# Altium footprint library Texas Instruments Footprints.PcbLib: 429 footprints (part 17 of 32)
Each footprint in its own frame and in the unit in brackets; x right, y up, seen from the top. Pads: shape width x height; smd on the part's side, far side on the other; paste and mask are expansions set on the pad; w line width, h text height; cw(c..) or ccw(c..) is an arc to the next point about the centre after c.
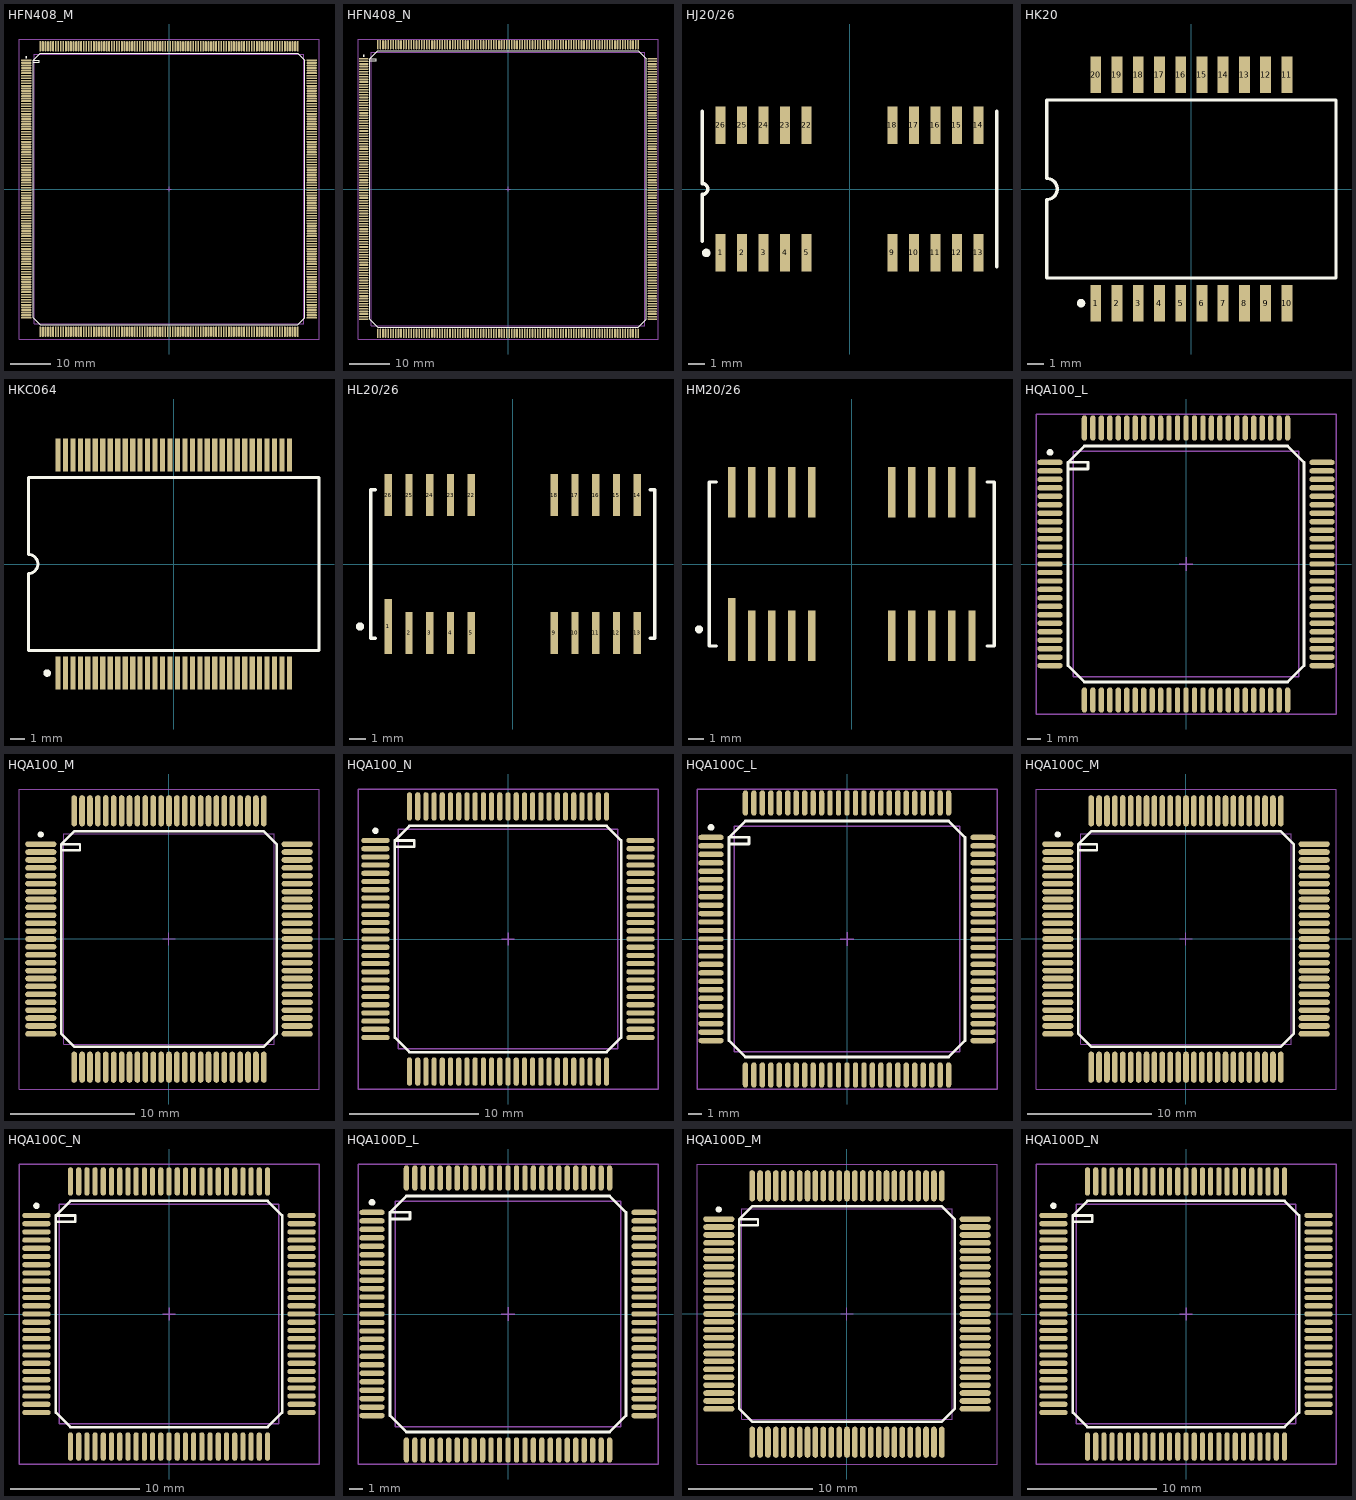
[diagram p16: the footprints below, top view; thin cyan lines are the x and y axes]

## HFN408_M [mm] "408-Pin Ceramic Quad Flat Pack 0.635 mm Pitch, IPC Low Density"
height 2.5
pads (408):
  oval 2.6x0.45 smd: 1(-35.6,32.067) 2(-35.6,31.432) 3(-35.6,30.797) 4(-35.6,30.162) 5(-35.6,29.527) 6(-35.6,28.892) 7(-35.6,28.258) 8(-35.6,27.622) 9(-35.6,26.987) 10(-35.6,26.352) 11(-35.6,25.717) 12(-35.6,25.082) 13(-35.6,24.447) 14(-35.6,23.812) 15(-35.6,23.177) 16(-35.6,22.543) 17(-35.6,21.907) 18(-35.6,21.273) 19(-35.6,20.637) 20(-35.6,20.002) 21(-35.6,19.367) 22(-35.6,18.732) 23(-35.6,18.098) 24(-35.6,17.462) 25(-35.6,16.828) 26(-35.6,16.192) 27(-35.6,15.557) 28(-35.6,14.922) 29(-35.6,14.287) 30(-35.6,13.652) 31(-35.6,13.018) 32(-35.6,12.383) 33(-35.6,11.747) 34(-35.6,11.112) 35(-35.6,10.477) 36(-35.6,9.842) 37(-35.6,9.207) 38(-35.6,8.572) 39(-35.6,7.938) 40(-35.6,7.302) 41(-35.6,6.667) 42(-35.6,6.032) 43(-35.6,5.397) 44(-35.6,4.763) 45(-35.6,4.127) 46(-35.6,3.492) 47(-35.6,2.857) 48(-35.6,2.222) 49(-35.6,1.587) 50(-35.6,0.953) 51(-35.6,0.318) 52(-35.6,-0.318) 53(-35.6,-0.953) 54(-35.6,-1.587) 55(-35.6,-2.222) 56(-35.6,-2.857) 57(-35.6,-3.492) 58(-35.6,-4.127) 59(-35.6,-4.763) 60(-35.6,-5.397) 61(-35.6,-6.032) 62(-35.6,-6.667) 63(-35.6,-7.302) 64(-35.6,-7.938) 65(-35.6,-8.572) 66(-35.6,-9.207) 67(-35.6,-9.842) 68(-35.6,-10.477) 69(-35.6,-11.112) 70(-35.6,-11.747) 71(-35.6,-12.383) 72(-35.6,-13.018) 73(-35.6,-13.652) 74(-35.6,-14.287) 75(-35.6,-14.922) 76(-35.6,-15.557) 77(-35.6,-16.192) 78(-35.6,-16.828) 79(-35.6,-17.462) 80(-35.6,-18.098) 81(-35.6,-18.732) 82(-35.6,-19.367) 83(-35.6,-20.002) 84(-35.6,-20.637) 85(-35.6,-21.273) 86(-35.6,-21.907) 87(-35.6,-22.543) 88(-35.6,-23.177) 89(-35.6,-23.812) 90(-35.6,-24.447) 91(-35.6,-25.082) 92(-35.6,-25.717) 93(-35.6,-26.352) 94(-35.6,-26.987) 95(-35.6,-27.622) 96(-35.6,-28.258) 97(-35.6,-28.892) 98(-35.6,-29.527) 99(-35.6,-30.162) 100(-35.6,-30.797) 101(-35.6,-31.432) 102(-35.6,-32.067) 205(35.6,-32.067) 206(35.6,-31.432) 207(35.6,-30.797) 208(35.6,-30.162) 209(35.6,-29.527) 210(35.6,-28.892) 211(35.6,-28.258) 212(35.6,-27.622) 213(35.6,-26.987) 214(35.6,-26.352) 215(35.6,-25.717) 216(35.6,-25.082) 217(35.6,-24.447) 218(35.6,-23.812) 219(35.6,-23.177) 220(35.6,-22.543) 221(35.6,-21.907) 222(35.6,-21.273) 223(35.6,-20.637) 224(35.6,-20.002) 225(35.6,-19.367) 226(35.6,-18.732) 227(35.6,-18.098) 228(35.6,-17.462) 229(35.6,-16.828) 230(35.6,-16.192) 231(35.6,-15.557) 232(35.6,-14.922) 233(35.6,-14.287) 234(35.6,-13.652) 235(35.6,-13.018) 236(35.6,-12.383) 237(35.6,-11.747) 238(35.6,-11.112) 239(35.6,-10.477) 240(35.6,-9.842) 241(35.6,-9.207) 242(35.6,-8.572) 243(35.6,-7.938) 244(35.6,-7.302) 245(35.6,-6.667) 246(35.6,-6.032) 247(35.6,-5.397) 248(35.6,-4.763) 249(35.6,-4.127) 250(35.6,-3.492) 251(35.6,-2.857) 252(35.6,-2.222) 253(35.6,-1.587) 254(35.6,-0.953) 255(35.6,-0.318) 256(35.6,0.318) 257(35.6,0.953) 258(35.6,1.587) 259(35.6,2.222) 260(35.6,2.857) 261(35.6,3.492) 262(35.6,4.127) 263(35.6,4.763) 264(35.6,5.397) 265(35.6,6.032) 266(35.6,6.667) 267(35.6,7.302) 268(35.6,7.938) 269(35.6,8.572) 270(35.6,9.207) 271(35.6,9.842) 272(35.6,10.477) 273(35.6,11.112) 274(35.6,11.747) 275(35.6,12.383) 276(35.6,13.018) 277(35.6,13.652) 278(35.6,14.287) 279(35.6,14.922) 280(35.6,15.557) 281(35.6,16.192) 282(35.6,16.828) 283(35.6,17.462) 284(35.6,18.098) 285(35.6,18.732) 286(35.6,19.367) 287(35.6,20.002) 288(35.6,20.637) 289(35.6,21.273) 290(35.6,21.907) 291(35.6,22.543) 292(35.6,23.177) 293(35.6,23.812) 294(35.6,24.447) 295(35.6,25.082) 296(35.6,25.717) 297(35.6,26.352) 298(35.6,26.987) 299(35.6,27.622) 300(35.6,28.258) 301(35.6,28.892) 302(35.6,29.527) 303(35.6,30.162) 304(35.6,30.797) 305(35.6,31.432) 306(35.6,32.067)
  oval 0.45x2.6 smd: 103(-32.067,-35.6) 104(-31.432,-35.6) 105(-30.797,-35.6) 106(-30.162,-35.6) 107(-29.527,-35.6) 108(-28.892,-35.6) 109(-28.258,-35.6) 110(-27.622,-35.6) 111(-26.987,-35.6) 112(-26.352,-35.6) 113(-25.717,-35.6) 114(-25.082,-35.6) 115(-24.447,-35.6) 116(-23.812,-35.6) 117(-23.177,-35.6) 118(-22.543,-35.6) 119(-21.907,-35.6) 120(-21.273,-35.6) 121(-20.637,-35.6) 122(-20.002,-35.6) 123(-19.367,-35.6) 124(-18.732,-35.6) 125(-18.098,-35.6) 126(-17.462,-35.6) 127(-16.828,-35.6) 128(-16.192,-35.6) 129(-15.557,-35.6) 130(-14.922,-35.6) 131(-14.287,-35.6) 132(-13.652,-35.6) 133(-13.018,-35.6) 134(-12.383,-35.6) 135(-11.747,-35.6) 136(-11.112,-35.6) 137(-10.477,-35.6) 138(-9.842,-35.6) 139(-9.207,-35.6) 140(-8.572,-35.6) 141(-7.938,-35.6) 142(-7.302,-35.6) 143(-6.667,-35.6) 144(-6.032,-35.6) 145(-5.397,-35.6) 146(-4.763,-35.6) 147(-4.127,-35.6) 148(-3.492,-35.6) 149(-2.857,-35.6) 150(-2.222,-35.6) 151(-1.587,-35.6) 152(-0.953,-35.6) 153(-0.318,-35.6) 154(0.318,-35.6) 155(0.953,-35.6) 156(1.587,-35.6) 157(2.222,-35.6) 158(2.857,-35.6) 159(3.492,-35.6) 160(4.127,-35.6) 161(4.763,-35.6) 162(5.397,-35.6) 163(6.032,-35.6) 164(6.667,-35.6) 165(7.302,-35.6) 166(7.938,-35.6) 167(8.572,-35.6) 168(9.207,-35.6) 169(9.842,-35.6) 170(10.477,-35.6) 171(11.112,-35.6) 172(11.747,-35.6) 173(12.383,-35.6) 174(13.018,-35.6) 175(13.652,-35.6) 176(14.287,-35.6) 177(14.922,-35.6) 178(15.557,-35.6) 179(16.192,-35.6) 180(16.828,-35.6) 181(17.462,-35.6) 182(18.098,-35.6) 183(18.732,-35.6) 184(19.367,-35.6) 185(20.002,-35.6) 186(20.637,-35.6) 187(21.273,-35.6) 188(21.907,-35.6) 189(22.543,-35.6) 190(23.177,-35.6) 191(23.812,-35.6) 192(24.447,-35.6) 193(25.082,-35.6) 194(25.717,-35.6) 195(26.352,-35.6) 196(26.987,-35.6) 197(27.622,-35.6) 198(28.258,-35.6) 199(28.892,-35.6) 200(29.527,-35.6) 201(30.162,-35.6) 202(30.797,-35.6) 203(31.432,-35.6) 204(32.067,-35.6) 307(32.067,35.6) 308(31.432,35.6) 309(30.797,35.6) 310(30.162,35.6) 311(29.527,35.6) 312(28.892,35.6) 313(28.258,35.6) 314(27.622,35.6) 315(26.987,35.6) 316(26.352,35.6) 317(25.717,35.6) 318(25.082,35.6) 319(24.447,35.6) 320(23.812,35.6) 321(23.177,35.6) 322(22.543,35.6) 323(21.907,35.6) 324(21.273,35.6) 325(20.637,35.6) 326(20.002,35.6) 327(19.367,35.6) 328(18.732,35.6) 329(18.098,35.6) 330(17.462,35.6) 331(16.828,35.6) 332(16.192,35.6) 333(15.557,35.6) 334(14.922,35.6) 335(14.287,35.6) 336(13.652,35.6) 337(13.018,35.6) 338(12.383,35.6) 339(11.747,35.6) 340(11.112,35.6) 341(10.477,35.6) 342(9.842,35.6) 343(9.207,35.6) 344(8.572,35.6) 345(7.938,35.6) 346(7.302,35.6) 347(6.667,35.6) 348(6.032,35.6) 349(5.397,35.6) 350(4.763,35.6) 351(4.127,35.6) 352(3.492,35.6) 353(2.857,35.6) 354(2.222,35.6) 355(1.587,35.6) 356(0.953,35.6) 357(0.318,35.6) 358(-0.318,35.6) 359(-0.953,35.6) 360(-1.587,35.6) 361(-2.222,35.6) 362(-2.857,35.6) 363(-3.492,35.6) 364(-4.127,35.6) 365(-4.763,35.6) 366(-5.397,35.6) 367(-6.032,35.6) 368(-6.667,35.6) 369(-7.302,35.6) 370(-7.938,35.6) 371(-8.572,35.6) 372(-9.207,35.6) 373(-9.842,35.6) 374(-10.477,35.6) 375(-11.112,35.6) 376(-11.747,35.6) 377(-12.383,35.6) 378(-13.018,35.6) 379(-13.652,35.6) 380(-14.287,35.6) 381(-14.922,35.6) 382(-15.557,35.6) 383(-16.192,35.6) 384(-16.828,35.6) 385(-17.462,35.6) 386(-18.098,35.6) 387(-18.732,35.6) 388(-19.367,35.6) 389(-20.002,35.6) 390(-20.637,35.6) 391(-21.273,35.6) 392(-21.907,35.6) 393(-22.543,35.6) 394(-23.177,35.6) 395(-23.812,35.6) 396(-24.447,35.6) 397(-25.082,35.6) 398(-25.717,35.6) 399(-26.352,35.6) 400(-26.987,35.6) 401(-27.622,35.6) 402(-28.258,35.6) 403(-28.892,35.6) 404(-29.527,35.6) 405(-30.162,35.6) 406(-30.797,35.6) 407(-31.432,35.6) 408(-32.067,35.6)
Top Overlay:
  circle w0.25: c-35.6,32.842 r0.125
  lines w0.2: -33.9,31.57 -32.4,31.57 -32.4,32.07 -33.9,32.07 ; -33.9,32.07 -32.07,33.9 32.07,33.9 33.9,32.07 33.9,-32.07 32.07,-33.9 -32.07,-33.9 -33.9,-32.07 -33.9,32.07
Mechanical 13:
  lines w0.1: -33.655,-33.655 33.655,-33.655 33.655,33.655 -33.655,33.655 -33.655,-33.655
Mechanical 15:
  lines w0.1: -0.5,0 0.5,0 ; 0,-0.5 0,0.5 ; -37.4,-37.4 37.4,-37.4 37.4,37.4 -37.4,37.4 -37.4,-37.4
3D body: height 2.5, standoff 0, extent -33.655,-33.655 33.655,33.655

## HFN408_N [mm] "408-Pin Ceramic Quad Flat Pack 0.635 mm Pitch, IPC Medium Density"
height 2.5
pads (408):
  oval 2.3x0.4 smd: 1(-35.55,32.067) 2(-35.55,31.432) 3(-35.55,30.797) 4(-35.55,30.162) 5(-35.55,29.527) 6(-35.55,28.892) 7(-35.55,28.258) 8(-35.55,27.622) 9(-35.55,26.987) 10(-35.55,26.352) 11(-35.55,25.717) 12(-35.55,25.082) 13(-35.55,24.447) 14(-35.55,23.812) 15(-35.55,23.177) 16(-35.55,22.543) 17(-35.55,21.907) 18(-35.55,21.273) 19(-35.55,20.637) 20(-35.55,20.002) 21(-35.55,19.367) 22(-35.55,18.732) 23(-35.55,18.098) 24(-35.55,17.462) 25(-35.55,16.828) 26(-35.55,16.192) 27(-35.55,15.557) 28(-35.55,14.922) 29(-35.55,14.287) 30(-35.55,13.652) 31(-35.55,13.018) 32(-35.55,12.383) 33(-35.55,11.747) 34(-35.55,11.112) 35(-35.55,10.477) 36(-35.55,9.842) 37(-35.55,9.207) 38(-35.55,8.572) 39(-35.55,7.938) 40(-35.55,7.302) 41(-35.55,6.667) 42(-35.55,6.032) 43(-35.55,5.397) 44(-35.55,4.763) 45(-35.55,4.127) 46(-35.55,3.492) 47(-35.55,2.857) 48(-35.55,2.222) 49(-35.55,1.587) 50(-35.55,0.953) 51(-35.55,0.318) 52(-35.55,-0.318) 53(-35.55,-0.953) 54(-35.55,-1.587) 55(-35.55,-2.222) 56(-35.55,-2.857) 57(-35.55,-3.492) 58(-35.55,-4.127) 59(-35.55,-4.763) 60(-35.55,-5.397) 61(-35.55,-6.032) 62(-35.55,-6.667) 63(-35.55,-7.302) 64(-35.55,-7.938) 65(-35.55,-8.572) 66(-35.55,-9.207) 67(-35.55,-9.842) 68(-35.55,-10.477) 69(-35.55,-11.112) 70(-35.55,-11.747) 71(-35.55,-12.383) 72(-35.55,-13.018) 73(-35.55,-13.652) 74(-35.55,-14.287) 75(-35.55,-14.922) 76(-35.55,-15.557) 77(-35.55,-16.192) 78(-35.55,-16.828) 79(-35.55,-17.462) 80(-35.55,-18.098) 81(-35.55,-18.732) 82(-35.55,-19.367) 83(-35.55,-20.002) 84(-35.55,-20.637) 85(-35.55,-21.273) 86(-35.55,-21.907) 87(-35.55,-22.543) 88(-35.55,-23.177) 89(-35.55,-23.812) 90(-35.55,-24.447) 91(-35.55,-25.082) 92(-35.55,-25.717) 93(-35.55,-26.352) 94(-35.55,-26.987) 95(-35.55,-27.622) 96(-35.55,-28.258) 97(-35.55,-28.892) 98(-35.55,-29.527) 99(-35.55,-30.162) 100(-35.55,-30.797) 101(-35.55,-31.432) 102(-35.55,-32.067) 205(35.55,-32.067) 206(35.55,-31.432) 207(35.55,-30.797) 208(35.55,-30.162) 209(35.55,-29.527) 210(35.55,-28.892) 211(35.55,-28.258) 212(35.55,-27.622) 213(35.55,-26.987) 214(35.55,-26.352) 215(35.55,-25.717) 216(35.55,-25.082) 217(35.55,-24.447) 218(35.55,-23.812) 219(35.55,-23.177) 220(35.55,-22.543) 221(35.55,-21.907) 222(35.55,-21.273) 223(35.55,-20.637) 224(35.55,-20.002) 225(35.55,-19.367) 226(35.55,-18.732) 227(35.55,-18.098) 228(35.55,-17.462) 229(35.55,-16.828) 230(35.55,-16.192) 231(35.55,-15.557) 232(35.55,-14.922) 233(35.55,-14.287) 234(35.55,-13.652) 235(35.55,-13.018) 236(35.55,-12.383) 237(35.55,-11.747) 238(35.55,-11.112) 239(35.55,-10.477) 240(35.55,-9.842) 241(35.55,-9.207) 242(35.55,-8.572) 243(35.55,-7.938) 244(35.55,-7.302) 245(35.55,-6.667) 246(35.55,-6.032) 247(35.55,-5.397) 248(35.55,-4.763) 249(35.55,-4.127) 250(35.55,-3.492) 251(35.55,-2.857) 252(35.55,-2.222) 253(35.55,-1.587) 254(35.55,-0.953) 255(35.55,-0.318) 256(35.55,0.318) 257(35.55,0.953) 258(35.55,1.587) 259(35.55,2.222) 260(35.55,2.857) 261(35.55,3.492) 262(35.55,4.127) 263(35.55,4.763) 264(35.55,5.397) 265(35.55,6.032) 266(35.55,6.667) 267(35.55,7.302) 268(35.55,7.938) 269(35.55,8.572) 270(35.55,9.207) 271(35.55,9.842) 272(35.55,10.477) 273(35.55,11.112) 274(35.55,11.747) 275(35.55,12.383) 276(35.55,13.018) 277(35.55,13.652) 278(35.55,14.287) 279(35.55,14.922) 280(35.55,15.557) 281(35.55,16.192) 282(35.55,16.828) 283(35.55,17.462) 284(35.55,18.098) 285(35.55,18.732) 286(35.55,19.367) 287(35.55,20.002) 288(35.55,20.637) 289(35.55,21.273) 290(35.55,21.907) 291(35.55,22.543) 292(35.55,23.177) 293(35.55,23.812) 294(35.55,24.447) 295(35.55,25.082) 296(35.55,25.717) 297(35.55,26.352) 298(35.55,26.987) 299(35.55,27.622) 300(35.55,28.258) 301(35.55,28.892) 302(35.55,29.527) 303(35.55,30.162) 304(35.55,30.797) 305(35.55,31.432) 306(35.55,32.067)
  oval 0.4x2.3 smd: 103(-32.067,-35.55) 104(-31.432,-35.55) 105(-30.797,-35.55) 106(-30.162,-35.55) 107(-29.527,-35.55) 108(-28.892,-35.55) 109(-28.258,-35.55) 110(-27.622,-35.55) 111(-26.987,-35.55) 112(-26.352,-35.55) 113(-25.717,-35.55) 114(-25.082,-35.55) 115(-24.447,-35.55) 116(-23.812,-35.55) 117(-23.177,-35.55) 118(-22.543,-35.55) 119(-21.907,-35.55) 120(-21.273,-35.55) 121(-20.637,-35.55) 122(-20.002,-35.55) 123(-19.367,-35.55) 124(-18.732,-35.55) 125(-18.098,-35.55) 126(-17.462,-35.55) 127(-16.828,-35.55) 128(-16.192,-35.55) 129(-15.557,-35.55) 130(-14.922,-35.55) 131(-14.287,-35.55) 132(-13.652,-35.55) 133(-13.018,-35.55) 134(-12.383,-35.55) 135(-11.747,-35.55) 136(-11.112,-35.55) 137(-10.477,-35.55) 138(-9.842,-35.55) 139(-9.207,-35.55) 140(-8.572,-35.55) 141(-7.938,-35.55) 142(-7.302,-35.55) 143(-6.667,-35.55) 144(-6.032,-35.55) 145(-5.397,-35.55) 146(-4.763,-35.55) 147(-4.127,-35.55) 148(-3.492,-35.55) 149(-2.857,-35.55) 150(-2.222,-35.55) 151(-1.587,-35.55) 152(-0.953,-35.55) 153(-0.318,-35.55) 154(0.318,-35.55) 155(0.953,-35.55) 156(1.587,-35.55) 157(2.222,-35.55) 158(2.857,-35.55) 159(3.492,-35.55) 160(4.127,-35.55) 161(4.763,-35.55) 162(5.397,-35.55) 163(6.032,-35.55) 164(6.667,-35.55) 165(7.302,-35.55) 166(7.938,-35.55) 167(8.572,-35.55) 168(9.207,-35.55) 169(9.842,-35.55) 170(10.477,-35.55) 171(11.112,-35.55) 172(11.747,-35.55) 173(12.383,-35.55) 174(13.018,-35.55) 175(13.652,-35.55) 176(14.287,-35.55) 177(14.922,-35.55) 178(15.557,-35.55) 179(16.192,-35.55) 180(16.828,-35.55) 181(17.462,-35.55) 182(18.098,-35.55) 183(18.732,-35.55) 184(19.367,-35.55) 185(20.002,-35.55) 186(20.637,-35.55) 187(21.273,-35.55) 188(21.907,-35.55) 189(22.543,-35.55) 190(23.177,-35.55) 191(23.812,-35.55) 192(24.447,-35.55) 193(25.082,-35.55) 194(25.717,-35.55) 195(26.352,-35.55) 196(26.987,-35.55) 197(27.622,-35.55) 198(28.258,-35.55) 199(28.892,-35.55) 200(29.527,-35.55) 201(30.162,-35.55) 202(30.797,-35.55) 203(31.432,-35.55) 204(32.067,-35.55) 307(32.067,35.55) 308(31.432,35.55) 309(30.797,35.55) 310(30.162,35.55) 311(29.527,35.55) 312(28.892,35.55) 313(28.258,35.55) 314(27.622,35.55) 315(26.987,35.55) 316(26.352,35.55) 317(25.717,35.55) 318(25.082,35.55) 319(24.447,35.55) 320(23.812,35.55) 321(23.177,35.55) 322(22.543,35.55) 323(21.907,35.55) 324(21.273,35.55) 325(20.637,35.55) 326(20.002,35.55) 327(19.367,35.55) 328(18.732,35.55) 329(18.098,35.55) 330(17.462,35.55) 331(16.828,35.55) 332(16.192,35.55) 333(15.557,35.55) 334(14.922,35.55) 335(14.287,35.55) 336(13.652,35.55) 337(13.018,35.55) 338(12.383,35.55) 339(11.747,35.55) 340(11.112,35.55) 341(10.477,35.55) 342(9.842,35.55) 343(9.207,35.55) 344(8.572,35.55) 345(7.938,35.55) 346(7.302,35.55) 347(6.667,35.55) 348(6.032,35.55) 349(5.397,35.55) 350(4.763,35.55) 351(4.127,35.55) 352(3.492,35.55) 353(2.857,35.55) 354(2.222,35.55) 355(1.587,35.55) 356(0.953,35.55) 357(0.318,35.55) 358(-0.318,35.55) 359(-0.953,35.55) 360(-1.587,35.55) 361(-2.222,35.55) 362(-2.857,35.55) 363(-3.492,35.55) 364(-4.127,35.55) 365(-4.763,35.55) 366(-5.397,35.55) 367(-6.032,35.55) 368(-6.667,35.55) 369(-7.302,35.55) 370(-7.938,35.55) 371(-8.572,35.55) 372(-9.207,35.55) 373(-9.842,35.55) 374(-10.477,35.55) 375(-11.112,35.55) 376(-11.747,35.55) 377(-12.383,35.55) 378(-13.018,35.55) 379(-13.652,35.55) 380(-14.287,35.55) 381(-14.922,35.55) 382(-15.557,35.55) 383(-16.192,35.55) 384(-16.828,35.55) 385(-17.462,35.55) 386(-18.098,35.55) 387(-18.732,35.55) 388(-19.367,35.55) 389(-20.002,35.55) 390(-20.637,35.55) 391(-21.273,35.55) 392(-21.907,35.55) 393(-22.543,35.55) 394(-23.177,35.55) 395(-23.812,35.55) 396(-24.447,35.55) 397(-25.082,35.55) 398(-25.717,35.55) 399(-26.352,35.55) 400(-26.987,35.55) 401(-27.622,35.55) 402(-28.258,35.55) 403(-28.892,35.55) 404(-29.527,35.55) 405(-30.162,35.55) 406(-30.797,35.55) 407(-31.432,35.55) 408(-32.067,35.55)
Top Overlay:
  circle w0.25: c-35.55,32.818 r0.125
  lines w0.2: -34,31.57 -32.5,31.57 -32.5,32.07 -34,32.07 ; -34,32.07 -32.07,34 32.07,34 34,32.07 34,-32.07 32.07,-34 -32.07,-34 -34,-32.07 -34,32.07
Mechanical 13:
  lines w0.1: -33.655,-33.655 33.655,-33.655 33.655,33.655 -33.655,33.655 -33.655,-33.655
Mechanical 15:
  lines w0.1: -0.5,0 0.5,0 ; 0,-0.5 0,0.5 ; -36.95,-36.95 36.95,-36.95 36.95,36.95 -36.95,36.95 -36.95,-36.95
3D body: height 2.5, standoff 0, extent -33.655,-33.655 33.655,33.655

## HJ20/26 [mm] "SOJ; 20 Leads; Body Width 8.4 mm; Pitch 1.27 mm"
height 3.59
pads (20):
  rect 0.6x2.2 smd: 1(-7.62,-3.775) 2(-6.35,-3.775) 3(-5.08,-3.775) 4(-3.81,-3.775) 5(-2.54,-3.775) 9(2.54,-3.775) 10(3.81,-3.775) 11(5.08,-3.775) 12(6.35,-3.775) 13(7.62,-3.775) 14(7.62,3.775) 15(6.35,3.775) 16(5.08,3.775) 17(3.81,3.775) 18(2.54,3.775) 22(-2.54,3.775) 23(-3.81,3.775) 24(-5.08,3.775) 25(-6.35,3.775) 26(-7.62,3.775)
Top Overlay:
  circle w0.25: c-8.47,-3.775 r0.125
  lines w0.2: -8.7,-3.1 -8.7,-0.318 ccw(c-8.7,0) -8.7,0.318 -8.7,4.6 ; 8.7,-4.6 8.7,4.6

## HK20 [mm] "DFP; 20 Leads; Body 17.3 x 9.8 mm (LxW max); Pitch 1.27 mm"
height 2.42
pads (20):
  rect 0.65x2.2 smd: 1(-5.715,-6.825) 2(-4.445,-6.825) 3(-3.175,-6.825) 4(-1.905,-6.825) 5(-0.635,-6.825) 6(0.635,-6.825) 7(1.905,-6.825) 8(3.175,-6.825) 9(4.445,-6.825) 10(5.715,-6.825) 11(5.715,6.825) 12(4.445,6.825) 13(3.175,6.825) 14(1.905,6.825) 15(0.635,6.825) 16(-0.635,6.825) 17(-1.905,6.825) 18(-3.175,6.825) 19(-4.445,6.825) 20(-5.715,6.825)
Top Overlay:
  circle w0.25: c-6.59,-6.825 r0.125
  lines w0.2: -8.65,-0.635 ccw(c-8.65,0) -8.65,0.635 ; -8.65,-0.625 -8.65,-5.325 8.65,-5.325 8.65,5.325 -8.65,5.325 -8.65,0.625

## HKC064 [mm] "DFP; 64 Leads; Body 19.4 x 11.3 mm (LxW max); Pitch 0.5 mm"
height 3.81
pads (64):
  rect 0.35x2.2 smd: 1(-7.75,-7.3) 2(-7.25,-7.3) 3(-6.75,-7.3) 4(-6.25,-7.3) 5(-5.75,-7.3) 6(-5.25,-7.3) 7(-4.75,-7.3) 8(-4.25,-7.3) 9(-3.75,-7.3) 10(-3.25,-7.3) 11(-2.75,-7.3) 12(-2.25,-7.3) 13(-1.75,-7.3) 14(-1.25,-7.3) 15(-0.75,-7.3) 16(-0.25,-7.3) 17(0.25,-7.3) 18(0.75,-7.3) 19(1.25,-7.3) 20(1.75,-7.3) 21(2.25,-7.3) 22(2.75,-7.3) 23(3.25,-7.3) 24(3.75,-7.3) 25(4.25,-7.3) 26(4.75,-7.3) 27(5.25,-7.3) 28(5.75,-7.3) 29(6.25,-7.3) 30(6.75,-7.3) 31(7.25,-7.3) 32(7.75,-7.3) 33(7.75,7.3) 34(7.25,7.3) 35(6.75,7.3) 36(6.25,7.3) 37(5.75,7.3) 38(5.25,7.3) 39(4.75,7.3) 40(4.25,7.3) 41(3.75,7.3) 42(3.25,7.3) 43(2.75,7.3) 44(2.25,7.3) 45(1.75,7.3) 46(1.25,7.3) 47(0.75,7.3) 48(0.25,7.3) 49(-0.25,7.3) 50(-0.75,7.3) 51(-1.25,7.3) 52(-1.75,7.3) 53(-2.25,7.3) 54(-2.75,7.3) 55(-3.25,7.3) 56(-3.75,7.3) 57(-4.25,7.3) 58(-4.75,7.3) 59(-5.25,7.3) 60(-5.75,7.3) 61(-6.25,7.3) 62(-6.75,7.3) 63(-7.25,7.3) 64(-7.75,7.3)
Top Overlay:
  circle w0.25: c-8.475,-7.3 r0.125
  lines w0.2: -9.725,-5.8 -9.725,-0.635 ccw(c-9.725,0) -9.725,0.635 -9.725,5.8 9.725,5.8 9.725,-5.8 -9.725,-5.8

## HL20/26 [mm] "Leadless Chip Carrier; 20 Terminals; Body 8.9 x 17.1 mm"
height 2.03
pads (20):
  rect 0.45x3.35 smd: 1(-7.62,-3.825)
  rect 0.45x2.55 smd: 2(-6.35,-4.225) 3(-5.08,-4.225) 4(-3.81,-4.225) 5(-2.54,-4.225) 9(2.54,-4.225) 10(3.81,-4.225) 11(5.08,-4.225) 12(6.35,-4.225) 13(7.62,-4.225) 14(7.62,4.225) 15(6.35,4.225) 16(5.08,4.225) 17(3.81,4.225) 18(2.54,4.225) 22(-2.54,4.225) 23(-3.81,4.225) 24(-5.08,4.225) 25(-6.35,4.225) 26(-7.62,4.225)
Top Overlay:
  circle w0.25: c-9.35,-3.825 r0.125
  lines w0.2: -8.4,-4.55 -8.7,-4.55 -8.7,4.55 -8.4,4.55 ; 8.4,-4.55 8.7,-4.55 8.7,4.55 8.4,4.55

## HM20/26 [mm] "Leadless Chip Carrier; 20 Terminals; Body 10.2 x 17.8 mm"
height 2.34
pads (20):
  rect 0.45x4 smd: 1(-7.62,-4.15)
  rect 0.45x3.2 smd: 2(-6.35,-4.55) 3(-5.08,-4.55) 4(-3.81,-4.55) 5(-2.54,-4.55) 9(2.54,-4.55) 10(3.81,-4.55) 11(5.08,-4.55) 12(6.35,-4.55) 13(7.62,-4.55) 14(7.62,4.55) 15(6.35,4.55) 16(5.08,4.55) 17(3.81,4.55) 18(2.54,4.55) 22(-2.54,4.55) 23(-3.81,4.55) 24(-5.08,4.55) 25(-6.35,4.55) 26(-7.62,4.55)
Top Overlay:
  circle w0.25: c-9.7,-4.15 r0.125
  lines w0.2: -8.6,-5.2 -9.05,-5.2 -9.05,5.2 -8.6,5.2 ; 8.6,-5.2 9.05,-5.2 9.05,5.2 8.6,5.2

## HQA100_L [mm] "100-Pin Ceramic Quad Flat Pack 0.635 mm Pitch, IPC High Density"
height 3.2
pads (100):
  oval 1.9x0.4 smd: 1(-10.2,7.62) 2(-10.2,6.985) 3(-10.2,6.35) 4(-10.2,5.715) 5(-10.2,5.08) 6(-10.2,4.445) 7(-10.2,3.81) 8(-10.2,3.175) 9(-10.2,2.54) 10(-10.2,1.905) 11(-10.2,1.27) 12(-10.2,0.635) 13(-10.2,0) 14(-10.2,-0.635) 15(-10.2,-1.27) 16(-10.2,-1.905) 17(-10.2,-2.54) 18(-10.2,-3.175) 19(-10.2,-3.81) 20(-10.2,-4.445) 21(-10.2,-5.08) 22(-10.2,-5.715) 23(-10.2,-6.35) 24(-10.2,-6.985) 25(-10.2,-7.62) 51(10.2,-7.62) 52(10.2,-6.985) 53(10.2,-6.35) 54(10.2,-5.715) 55(10.2,-5.08) 56(10.2,-4.445) 57(10.2,-3.81) 58(10.2,-3.175) 59(10.2,-2.54) 60(10.2,-1.905) 61(10.2,-1.27) 62(10.2,-0.635) 63(10.2,0) 64(10.2,0.635) 65(10.2,1.27) 66(10.2,1.905) 67(10.2,2.54) 68(10.2,3.175) 69(10.2,3.81) 70(10.2,4.445) 71(10.2,5.08) 72(10.2,5.715) 73(10.2,6.35) 74(10.2,6.985) 75(10.2,7.62)
  oval 0.4x1.9 smd: 26(-7.62,-10.2) 27(-6.985,-10.2) 28(-6.35,-10.2) 29(-5.715,-10.2) 30(-5.08,-10.2) 31(-4.445,-10.2) 32(-3.81,-10.2) 33(-3.175,-10.2) 34(-2.54,-10.2) 35(-1.905,-10.2) 36(-1.27,-10.2) 37(-0.635,-10.2) 38(0,-10.2) 39(0.635,-10.2) 40(1.27,-10.2) 41(1.905,-10.2) 42(2.54,-10.2) 43(3.175,-10.2) 44(3.81,-10.2) 45(4.445,-10.2) 46(5.08,-10.2) 47(5.715,-10.2) 48(6.35,-10.2) 49(6.985,-10.2) 50(7.62,-10.2) 76(7.62,10.2) 77(6.985,10.2) 78(6.35,10.2) 79(5.715,10.2) 80(5.08,10.2) 81(4.445,10.2) 82(3.81,10.2) 83(3.175,10.2) 84(2.54,10.2) 85(1.905,10.2) 86(1.27,10.2) 87(0.635,10.2) 88(0,10.2) 89(-0.635,10.2) 90(-1.27,10.2) 91(-1.905,10.2) 92(-2.54,10.2) 93(-3.175,10.2) 94(-3.81,10.2) 95(-4.445,10.2) 96(-5.08,10.2) 97(-5.715,10.2) 98(-6.35,10.2) 99(-6.985,10.2) 100(-7.62,10.2)
Top Overlay:
  circle w0.25: c-10.2,8.37 r0.125
  lines w0.2: -8.85,7.12 -7.35,7.12 -7.35,7.62 -8.85,7.62 ; -8.85,7.62 -7.62,8.85 7.62,8.85 8.85,7.62 8.85,-7.62 7.62,-8.85 -7.62,-8.85 -8.85,-7.62 -8.85,7.62
Mechanical 13:
  lines w0.1: -8.475,-8.475 8.475,-8.475 8.475,8.475 -8.475,8.475 -8.475,-8.475
Mechanical 15:
  lines w0.1: -0.5,0 0.5,0 ; 0,-0.5 0,0.5 ; -11.25,-11.25 11.25,-11.25 11.25,11.25 -11.25,11.25 -11.25,-11.25
3D body: height 3.2, standoff 0, extent -8.475,-8.475 8.475,8.475

## HQA100_M [mm] "100-Pin Ceramic Quad Flat Pack 0.635 mm Pitch, IPC Low Density"
height 3.2
pads (100):
  oval 2.5x0.45 smd: 1(-10.3,7.62) 2(-10.3,6.985) 3(-10.3,6.35) 4(-10.3,5.715) 5(-10.3,5.08) 6(-10.3,4.445) 7(-10.3,3.81) 8(-10.3,3.175) 9(-10.3,2.54) 10(-10.3,1.905) 11(-10.3,1.27) 12(-10.3,0.635) 13(-10.3,0) 14(-10.3,-0.635) 15(-10.3,-1.27) 16(-10.3,-1.905) 17(-10.3,-2.54) 18(-10.3,-3.175) 19(-10.3,-3.81) 20(-10.3,-4.445) 21(-10.3,-5.08) 22(-10.3,-5.715) 23(-10.3,-6.35) 24(-10.3,-6.985) 25(-10.3,-7.62) 51(10.3,-7.62) 52(10.3,-6.985) 53(10.3,-6.35) 54(10.3,-5.715) 55(10.3,-5.08) 56(10.3,-4.445) 57(10.3,-3.81) 58(10.3,-3.175) 59(10.3,-2.54) 60(10.3,-1.905) 61(10.3,-1.27) 62(10.3,-0.635) 63(10.3,0) 64(10.3,0.635) 65(10.3,1.27) 66(10.3,1.905) 67(10.3,2.54) 68(10.3,3.175) 69(10.3,3.81) 70(10.3,4.445) 71(10.3,5.08) 72(10.3,5.715) 73(10.3,6.35) 74(10.3,6.985) 75(10.3,7.62)
  oval 0.45x2.5 smd: 26(-7.62,-10.3) 27(-6.985,-10.3) 28(-6.35,-10.3) 29(-5.715,-10.3) 30(-5.08,-10.3) 31(-4.445,-10.3) 32(-3.81,-10.3) 33(-3.175,-10.3) 34(-2.54,-10.3) 35(-1.905,-10.3) 36(-1.27,-10.3) 37(-0.635,-10.3) 38(0,-10.3) 39(0.635,-10.3) 40(1.27,-10.3) 41(1.905,-10.3) 42(2.54,-10.3) 43(3.175,-10.3) 44(3.81,-10.3) 45(4.445,-10.3) 46(5.08,-10.3) 47(5.715,-10.3) 48(6.35,-10.3) 49(6.985,-10.3) 50(7.62,-10.3) 76(7.62,10.3) 77(6.985,10.3) 78(6.35,10.3) 79(5.715,10.3) 80(5.08,10.3) 81(4.445,10.3) 82(3.81,10.3) 83(3.175,10.3) 84(2.54,10.3) 85(1.905,10.3) 86(1.27,10.3) 87(0.635,10.3) 88(0,10.3) 89(-0.635,10.3) 90(-1.27,10.3) 91(-1.905,10.3) 92(-2.54,10.3) 93(-3.175,10.3) 94(-3.81,10.3) 95(-4.445,10.3) 96(-5.08,10.3) 97(-5.715,10.3) 98(-6.35,10.3) 99(-6.985,10.3) 100(-7.62,10.3)
Top Overlay:
  circle w0.25: c-10.3,8.395 r0.125
  lines w0.2: -8.65,7.12 -7.15,7.12 -7.15,7.62 -8.65,7.62 ; -8.65,7.62 -7.62,8.65 7.62,8.65 8.65,7.62 8.65,-7.62 7.62,-8.65 -7.62,-8.65 -8.65,-7.62 -8.65,7.62
Mechanical 13:
  lines w0.1: -8.475,-8.475 8.475,-8.475 8.475,8.475 -8.475,8.475 -8.475,-8.475
Mechanical 15:
  lines w0.1: -0.5,0 0.5,0 ; 0,-0.5 0,0.5 ; -12.05,-12.05 12.05,-12.05 12.05,12.05 -12.05,12.05 -12.05,-12.05
3D body: height 3.2, standoff 0, extent -8.475,-8.475 8.475,8.475

## HQA100_N [mm] "100-Pin Ceramic Quad Flat Pack 0.635 mm Pitch, IPC Medium Density"
height 3.2
pads (100):
  oval 2.2x0.4 smd: 1(-10.25,7.62) 2(-10.25,6.985) 3(-10.25,6.35) 4(-10.25,5.715) 5(-10.25,5.08) 6(-10.25,4.445) 7(-10.25,3.81) 8(-10.25,3.175) 9(-10.25,2.54) 10(-10.25,1.905) 11(-10.25,1.27) 12(-10.25,0.635) 13(-10.25,0) 14(-10.25,-0.635) 15(-10.25,-1.27) 16(-10.25,-1.905) 17(-10.25,-2.54) 18(-10.25,-3.175) 19(-10.25,-3.81) 20(-10.25,-4.445) 21(-10.25,-5.08) 22(-10.25,-5.715) 23(-10.25,-6.35) 24(-10.25,-6.985) 25(-10.25,-7.62) 51(10.25,-7.62) 52(10.25,-6.985) 53(10.25,-6.35) 54(10.25,-5.715) 55(10.25,-5.08) 56(10.25,-4.445) 57(10.25,-3.81) 58(10.25,-3.175) 59(10.25,-2.54) 60(10.25,-1.905) 61(10.25,-1.27) 62(10.25,-0.635) 63(10.25,0) 64(10.25,0.635) 65(10.25,1.27) 66(10.25,1.905) 67(10.25,2.54) 68(10.25,3.175) 69(10.25,3.81) 70(10.25,4.445) 71(10.25,5.08) 72(10.25,5.715) 73(10.25,6.35) 74(10.25,6.985) 75(10.25,7.62)
  oval 0.4x2.2 smd: 26(-7.62,-10.25) 27(-6.985,-10.25) 28(-6.35,-10.25) 29(-5.715,-10.25) 30(-5.08,-10.25) 31(-4.445,-10.25) 32(-3.81,-10.25) 33(-3.175,-10.25) 34(-2.54,-10.25) 35(-1.905,-10.25) 36(-1.27,-10.25) 37(-0.635,-10.25) 38(0,-10.25) 39(0.635,-10.25) 40(1.27,-10.25) 41(1.905,-10.25) 42(2.54,-10.25) 43(3.175,-10.25) 44(3.81,-10.25) 45(4.445,-10.25) 46(5.08,-10.25) 47(5.715,-10.25) 48(6.35,-10.25) 49(6.985,-10.25) 50(7.62,-10.25) 76(7.62,10.25) 77(6.985,10.25) 78(6.35,10.25) 79(5.715,10.25) 80(5.08,10.25) 81(4.445,10.25) 82(3.81,10.25) 83(3.175,10.25) 84(2.54,10.25) 85(1.905,10.25) 86(1.27,10.25) 87(0.635,10.25) 88(0,10.25) 89(-0.635,10.25) 90(-1.27,10.25) 91(-1.905,10.25) 92(-2.54,10.25) 93(-3.175,10.25) 94(-3.81,10.25) 95(-4.445,10.25) 96(-5.08,10.25) 97(-5.715,10.25) 98(-6.35,10.25) 99(-6.985,10.25) 100(-7.62,10.25)
Top Overlay:
  circle w0.25: c-10.25,8.37 r0.125
  lines w0.2: -8.75,7.12 -7.25,7.12 -7.25,7.62 -8.75,7.62 ; -8.75,7.62 -7.62,8.75 7.62,8.75 8.75,7.62 8.75,-7.62 7.62,-8.75 -7.62,-8.75 -8.75,-7.62 -8.75,7.62
Mechanical 13:
  lines w0.1: -8.475,-8.475 8.475,-8.475 8.475,8.475 -8.475,8.475 -8.475,-8.475
Mechanical 15:
  lines w0.1: -0.5,0 0.5,0 ; 0,-0.5 0,0.5 ; -11.6,-11.6 11.6,-11.6 11.6,11.6 -11.6,11.6 -11.6,-11.6
3D body: height 3.2, standoff 0, extent -8.475,-8.475 8.475,8.475

## HQA100C_L [mm] "100-Pin Ceramic Quad Flat Pack 0.635 mm Pitch, IPC High Density"
height 3.2
pads (100):
  oval 1.9x0.4 smd: 1(-10.2,7.62) 2(-10.2,6.985) 3(-10.2,6.35) 4(-10.2,5.715) 5(-10.2,5.08) 6(-10.2,4.445) 7(-10.2,3.81) 8(-10.2,3.175) 9(-10.2,2.54) 10(-10.2,1.905) 11(-10.2,1.27) 12(-10.2,0.635) 13(-10.2,0) 14(-10.2,-0.635) 15(-10.2,-1.27) 16(-10.2,-1.905) 17(-10.2,-2.54) 18(-10.2,-3.175) 19(-10.2,-3.81) 20(-10.2,-4.445) 21(-10.2,-5.08) 22(-10.2,-5.715) 23(-10.2,-6.35) 24(-10.2,-6.985) 25(-10.2,-7.62) 51(10.2,-7.62) 52(10.2,-6.985) 53(10.2,-6.35) 54(10.2,-5.715) 55(10.2,-5.08) 56(10.2,-4.445) 57(10.2,-3.81) 58(10.2,-3.175) 59(10.2,-2.54) 60(10.2,-1.905) 61(10.2,-1.27) 62(10.2,-0.635) 63(10.2,0) 64(10.2,0.635) 65(10.2,1.27) 66(10.2,1.905) 67(10.2,2.54) 68(10.2,3.175) 69(10.2,3.81) 70(10.2,4.445) 71(10.2,5.08) 72(10.2,5.715) 73(10.2,6.35) 74(10.2,6.985) 75(10.2,7.62)
  oval 0.4x1.9 smd: 26(-7.62,-10.2) 27(-6.985,-10.2) 28(-6.35,-10.2) 29(-5.715,-10.2) 30(-5.08,-10.2) 31(-4.445,-10.2) 32(-3.81,-10.2) 33(-3.175,-10.2) 34(-2.54,-10.2) 35(-1.905,-10.2) 36(-1.27,-10.2) 37(-0.635,-10.2) 38(0,-10.2) 39(0.635,-10.2) 40(1.27,-10.2) 41(1.905,-10.2) 42(2.54,-10.2) 43(3.175,-10.2) 44(3.81,-10.2) 45(4.445,-10.2) 46(5.08,-10.2) 47(5.715,-10.2) 48(6.35,-10.2) 49(6.985,-10.2) 50(7.62,-10.2) 76(7.62,10.2) 77(6.985,10.2) 78(6.35,10.2) 79(5.715,10.2) 80(5.08,10.2) 81(4.445,10.2) 82(3.81,10.2) 83(3.175,10.2) 84(2.54,10.2) 85(1.905,10.2) 86(1.27,10.2) 87(0.635,10.2) 88(0,10.2) 89(-0.635,10.2) 90(-1.27,10.2) 91(-1.905,10.2) 92(-2.54,10.2) 93(-3.175,10.2) 94(-3.81,10.2) 95(-4.445,10.2) 96(-5.08,10.2) 97(-5.715,10.2) 98(-6.35,10.2) 99(-6.985,10.2) 100(-7.62,10.2)
Top Overlay:
  circle w0.25: c-10.2,8.37 r0.125
  lines w0.2: -8.85,7.12 -7.35,7.12 -7.35,7.62 -8.85,7.62 ; -8.85,7.62 -7.62,8.85 7.62,8.85 8.85,7.62 8.85,-7.62 7.62,-8.85 -7.62,-8.85 -8.85,-7.62 -8.85,7.62
Mechanical 13:
  lines w0.1: -8.475,-8.475 8.475,-8.475 8.475,8.475 -8.475,8.475 -8.475,-8.475
Mechanical 15:
  lines w0.1: -0.5,0 0.5,0 ; 0,-0.5 0,0.5 ; -11.25,-11.25 11.25,-11.25 11.25,11.25 -11.25,11.25 -11.25,-11.25
3D body: height 3.2, standoff 0, extent -8.475,-8.475 8.475,8.475

## HQA100C_M [mm] "100-Pin Ceramic Quad Flat Pack 0.635 mm Pitch, IPC Low Density"
height 3.2
pads (100):
  oval 2.5x0.45 smd: 1(-10.3,7.62) 2(-10.3,6.985) 3(-10.3,6.35) 4(-10.3,5.715) 5(-10.3,5.08) 6(-10.3,4.445) 7(-10.3,3.81) 8(-10.3,3.175) 9(-10.3,2.54) 10(-10.3,1.905) 11(-10.3,1.27) 12(-10.3,0.635) 13(-10.3,0) 14(-10.3,-0.635) 15(-10.3,-1.27) 16(-10.3,-1.905) 17(-10.3,-2.54) 18(-10.3,-3.175) 19(-10.3,-3.81) 20(-10.3,-4.445) 21(-10.3,-5.08) 22(-10.3,-5.715) 23(-10.3,-6.35) 24(-10.3,-6.985) 25(-10.3,-7.62) 51(10.3,-7.62) 52(10.3,-6.985) 53(10.3,-6.35) 54(10.3,-5.715) 55(10.3,-5.08) 56(10.3,-4.445) 57(10.3,-3.81) 58(10.3,-3.175) 59(10.3,-2.54) 60(10.3,-1.905) 61(10.3,-1.27) 62(10.3,-0.635) 63(10.3,0) 64(10.3,0.635) 65(10.3,1.27) 66(10.3,1.905) 67(10.3,2.54) 68(10.3,3.175) 69(10.3,3.81) 70(10.3,4.445) 71(10.3,5.08) 72(10.3,5.715) 73(10.3,6.35) 74(10.3,6.985) 75(10.3,7.62)
  oval 0.45x2.5 smd: 26(-7.62,-10.3) 27(-6.985,-10.3) 28(-6.35,-10.3) 29(-5.715,-10.3) 30(-5.08,-10.3) 31(-4.445,-10.3) 32(-3.81,-10.3) 33(-3.175,-10.3) 34(-2.54,-10.3) 35(-1.905,-10.3) 36(-1.27,-10.3) 37(-0.635,-10.3) 38(0,-10.3) 39(0.635,-10.3) 40(1.27,-10.3) 41(1.905,-10.3) 42(2.54,-10.3) 43(3.175,-10.3) 44(3.81,-10.3) 45(4.445,-10.3) 46(5.08,-10.3) 47(5.715,-10.3) 48(6.35,-10.3) 49(6.985,-10.3) 50(7.62,-10.3) 76(7.62,10.3) 77(6.985,10.3) 78(6.35,10.3) 79(5.715,10.3) 80(5.08,10.3) 81(4.445,10.3) 82(3.81,10.3) 83(3.175,10.3) 84(2.54,10.3) 85(1.905,10.3) 86(1.27,10.3) 87(0.635,10.3) 88(0,10.3) 89(-0.635,10.3) 90(-1.27,10.3) 91(-1.905,10.3) 92(-2.54,10.3) 93(-3.175,10.3) 94(-3.81,10.3) 95(-4.445,10.3) 96(-5.08,10.3) 97(-5.715,10.3) 98(-6.35,10.3) 99(-6.985,10.3) 100(-7.62,10.3)
Top Overlay:
  circle w0.25: c-10.3,8.395 r0.125
  lines w0.2: -8.65,7.12 -7.15,7.12 -7.15,7.62 -8.65,7.62 ; -8.65,7.62 -7.62,8.65 7.62,8.65 8.65,7.62 8.65,-7.62 7.62,-8.65 -7.62,-8.65 -8.65,-7.62 -8.65,7.62
Mechanical 13:
  lines w0.1: -8.475,-8.475 8.475,-8.475 8.475,8.475 -8.475,8.475 -8.475,-8.475
Mechanical 15:
  lines w0.1: -0.5,0 0.5,0 ; 0,-0.5 0,0.5 ; -12.05,-12.05 12.05,-12.05 12.05,12.05 -12.05,12.05 -12.05,-12.05
3D body: height 3.2, standoff 0, extent -8.475,-8.475 8.475,8.475

## HQA100C_N [mm] "100-Pin Ceramic Quad Flat Pack 0.635 mm Pitch, IPC Medium Density"
height 3.2
pads (100):
  oval 2.2x0.4 smd: 1(-10.25,7.62) 2(-10.25,6.985) 3(-10.25,6.35) 4(-10.25,5.715) 5(-10.25,5.08) 6(-10.25,4.445) 7(-10.25,3.81) 8(-10.25,3.175) 9(-10.25,2.54) 10(-10.25,1.905) 11(-10.25,1.27) 12(-10.25,0.635) 13(-10.25,0) 14(-10.25,-0.635) 15(-10.25,-1.27) 16(-10.25,-1.905) 17(-10.25,-2.54) 18(-10.25,-3.175) 19(-10.25,-3.81) 20(-10.25,-4.445) 21(-10.25,-5.08) 22(-10.25,-5.715) 23(-10.25,-6.35) 24(-10.25,-6.985) 25(-10.25,-7.62) 51(10.25,-7.62) 52(10.25,-6.985) 53(10.25,-6.35) 54(10.25,-5.715) 55(10.25,-5.08) 56(10.25,-4.445) 57(10.25,-3.81) 58(10.25,-3.175) 59(10.25,-2.54) 60(10.25,-1.905) 61(10.25,-1.27) 62(10.25,-0.635) 63(10.25,0) 64(10.25,0.635) 65(10.25,1.27) 66(10.25,1.905) 67(10.25,2.54) 68(10.25,3.175) 69(10.25,3.81) 70(10.25,4.445) 71(10.25,5.08) 72(10.25,5.715) 73(10.25,6.35) 74(10.25,6.985) 75(10.25,7.62)
  oval 0.4x2.2 smd: 26(-7.62,-10.25) 27(-6.985,-10.25) 28(-6.35,-10.25) 29(-5.715,-10.25) 30(-5.08,-10.25) 31(-4.445,-10.25) 32(-3.81,-10.25) 33(-3.175,-10.25) 34(-2.54,-10.25) 35(-1.905,-10.25) 36(-1.27,-10.25) 37(-0.635,-10.25) 38(0,-10.25) 39(0.635,-10.25) 40(1.27,-10.25) 41(1.905,-10.25) 42(2.54,-10.25) 43(3.175,-10.25) 44(3.81,-10.25) 45(4.445,-10.25) 46(5.08,-10.25) 47(5.715,-10.25) 48(6.35,-10.25) 49(6.985,-10.25) 50(7.62,-10.25) 76(7.62,10.25) 77(6.985,10.25) 78(6.35,10.25) 79(5.715,10.25) 80(5.08,10.25) 81(4.445,10.25) 82(3.81,10.25) 83(3.175,10.25) 84(2.54,10.25) 85(1.905,10.25) 86(1.27,10.25) 87(0.635,10.25) 88(0,10.25) 89(-0.635,10.25) 90(-1.27,10.25) 91(-1.905,10.25) 92(-2.54,10.25) 93(-3.175,10.25) 94(-3.81,10.25) 95(-4.445,10.25) 96(-5.08,10.25) 97(-5.715,10.25) 98(-6.35,10.25) 99(-6.985,10.25) 100(-7.62,10.25)
Top Overlay:
  circle w0.25: c-10.25,8.37 r0.125
  lines w0.2: -8.75,7.12 -7.25,7.12 -7.25,7.62 -8.75,7.62 ; -8.75,7.62 -7.62,8.75 7.62,8.75 8.75,7.62 8.75,-7.62 7.62,-8.75 -7.62,-8.75 -8.75,-7.62 -8.75,7.62
Mechanical 13:
  lines w0.1: -8.475,-8.475 8.475,-8.475 8.475,8.475 -8.475,8.475 -8.475,-8.475
Mechanical 15:
  lines w0.1: -0.5,0 0.5,0 ; 0,-0.5 0,0.5 ; -11.6,-11.6 11.6,-11.6 11.6,11.6 -11.6,11.6 -11.6,-11.6
3D body: height 3.2, standoff 0, extent -8.475,-8.475 8.475,8.475

## HQA100D_L [mm] "100-Pin Ceramic Quad Flat Pack 0.635 mm Pitch, IPC High Density"
height 3.2
pads (100):
  oval 1.9x0.4 smd: 1(-10.2,7.62) 2(-10.2,6.985) 3(-10.2,6.35) 4(-10.2,5.715) 5(-10.2,5.08) 6(-10.2,4.445) 7(-10.2,3.81) 8(-10.2,3.175) 9(-10.2,2.54) 10(-10.2,1.905) 11(-10.2,1.27) 12(-10.2,0.635) 13(-10.2,0) 14(-10.2,-0.635) 15(-10.2,-1.27) 16(-10.2,-1.905) 17(-10.2,-2.54) 18(-10.2,-3.175) 19(-10.2,-3.81) 20(-10.2,-4.445) 21(-10.2,-5.08) 22(-10.2,-5.715) 23(-10.2,-6.35) 24(-10.2,-6.985) 25(-10.2,-7.62) 51(10.2,-7.62) 52(10.2,-6.985) 53(10.2,-6.35) 54(10.2,-5.715) 55(10.2,-5.08) 56(10.2,-4.445) 57(10.2,-3.81) 58(10.2,-3.175) 59(10.2,-2.54) 60(10.2,-1.905) 61(10.2,-1.27) 62(10.2,-0.635) 63(10.2,0) 64(10.2,0.635) 65(10.2,1.27) 66(10.2,1.905) 67(10.2,2.54) 68(10.2,3.175) 69(10.2,3.81) 70(10.2,4.445) 71(10.2,5.08) 72(10.2,5.715) 73(10.2,6.35) 74(10.2,6.985) 75(10.2,7.62)
  oval 0.4x1.9 smd: 26(-7.62,-10.2) 27(-6.985,-10.2) 28(-6.35,-10.2) 29(-5.715,-10.2) 30(-5.08,-10.2) 31(-4.445,-10.2) 32(-3.81,-10.2) 33(-3.175,-10.2) 34(-2.54,-10.2) 35(-1.905,-10.2) 36(-1.27,-10.2) 37(-0.635,-10.2) 38(0,-10.2) 39(0.635,-10.2) 40(1.27,-10.2) 41(1.905,-10.2) 42(2.54,-10.2) 43(3.175,-10.2) 44(3.81,-10.2) 45(4.445,-10.2) 46(5.08,-10.2) 47(5.715,-10.2) 48(6.35,-10.2) 49(6.985,-10.2) 50(7.62,-10.2) 76(7.62,10.2) 77(6.985,10.2) 78(6.35,10.2) 79(5.715,10.2) 80(5.08,10.2) 81(4.445,10.2) 82(3.81,10.2) 83(3.175,10.2) 84(2.54,10.2) 85(1.905,10.2) 86(1.27,10.2) 87(0.635,10.2) 88(0,10.2) 89(-0.635,10.2) 90(-1.27,10.2) 91(-1.905,10.2) 92(-2.54,10.2) 93(-3.175,10.2) 94(-3.81,10.2) 95(-4.445,10.2) 96(-5.08,10.2) 97(-5.715,10.2) 98(-6.35,10.2) 99(-6.985,10.2) 100(-7.62,10.2)
Top Overlay:
  circle w0.25: c-10.2,8.37 r0.125
  lines w0.2: -8.85,7.12 -7.35,7.12 -7.35,7.62 -8.85,7.62 ; -8.85,7.62 -7.62,8.85 7.62,8.85 8.85,7.62 8.85,-7.62 7.62,-8.85 -7.62,-8.85 -8.85,-7.62 -8.85,7.62
Mechanical 13:
  lines w0.1: -8.475,-8.475 8.475,-8.475 8.475,8.475 -8.475,8.475 -8.475,-8.475
Mechanical 15:
  lines w0.1: -0.5,0 0.5,0 ; 0,-0.5 0,0.5 ; -11.25,-11.25 11.25,-11.25 11.25,11.25 -11.25,11.25 -11.25,-11.25
3D body: height 3.2, standoff 0, extent -8.475,-8.475 8.475,8.475

## HQA100D_M [mm] "100-Pin Ceramic Quad Flat Pack 0.635 mm Pitch, IPC Low Density"
height 3.2
pads (100):
  oval 2.5x0.45 smd: 1(-10.3,7.62) 2(-10.3,6.985) 3(-10.3,6.35) 4(-10.3,5.715) 5(-10.3,5.08) 6(-10.3,4.445) 7(-10.3,3.81) 8(-10.3,3.175) 9(-10.3,2.54) 10(-10.3,1.905) 11(-10.3,1.27) 12(-10.3,0.635) 13(-10.3,0) 14(-10.3,-0.635) 15(-10.3,-1.27) 16(-10.3,-1.905) 17(-10.3,-2.54) 18(-10.3,-3.175) 19(-10.3,-3.81) 20(-10.3,-4.445) 21(-10.3,-5.08) 22(-10.3,-5.715) 23(-10.3,-6.35) 24(-10.3,-6.985) 25(-10.3,-7.62) 51(10.3,-7.62) 52(10.3,-6.985) 53(10.3,-6.35) 54(10.3,-5.715) 55(10.3,-5.08) 56(10.3,-4.445) 57(10.3,-3.81) 58(10.3,-3.175) 59(10.3,-2.54) 60(10.3,-1.905) 61(10.3,-1.27) 62(10.3,-0.635) 63(10.3,0) 64(10.3,0.635) 65(10.3,1.27) 66(10.3,1.905) 67(10.3,2.54) 68(10.3,3.175) 69(10.3,3.81) 70(10.3,4.445) 71(10.3,5.08) 72(10.3,5.715) 73(10.3,6.35) 74(10.3,6.985) 75(10.3,7.62)
  oval 0.45x2.5 smd: 26(-7.62,-10.3) 27(-6.985,-10.3) 28(-6.35,-10.3) 29(-5.715,-10.3) 30(-5.08,-10.3) 31(-4.445,-10.3) 32(-3.81,-10.3) 33(-3.175,-10.3) 34(-2.54,-10.3) 35(-1.905,-10.3) 36(-1.27,-10.3) 37(-0.635,-10.3) 38(0,-10.3) 39(0.635,-10.3) 40(1.27,-10.3) 41(1.905,-10.3) 42(2.54,-10.3) 43(3.175,-10.3) 44(3.81,-10.3) 45(4.445,-10.3) 46(5.08,-10.3) 47(5.715,-10.3) 48(6.35,-10.3) 49(6.985,-10.3) 50(7.62,-10.3) 76(7.62,10.3) 77(6.985,10.3) 78(6.35,10.3) 79(5.715,10.3) 80(5.08,10.3) 81(4.445,10.3) 82(3.81,10.3) 83(3.175,10.3) 84(2.54,10.3) 85(1.905,10.3) 86(1.27,10.3) 87(0.635,10.3) 88(0,10.3) 89(-0.635,10.3) 90(-1.27,10.3) 91(-1.905,10.3) 92(-2.54,10.3) 93(-3.175,10.3) 94(-3.81,10.3) 95(-4.445,10.3) 96(-5.08,10.3) 97(-5.715,10.3) 98(-6.35,10.3) 99(-6.985,10.3) 100(-7.62,10.3)
Top Overlay:
  circle w0.25: c-10.3,8.395 r0.125
  lines w0.2: -8.65,7.12 -7.15,7.12 -7.15,7.62 -8.65,7.62 ; -8.65,7.62 -7.62,8.65 7.62,8.65 8.65,7.62 8.65,-7.62 7.62,-8.65 -7.62,-8.65 -8.65,-7.62 -8.65,7.62
Mechanical 13:
  lines w0.1: -8.475,-8.475 8.475,-8.475 8.475,8.475 -8.475,8.475 -8.475,-8.475
Mechanical 15:
  lines w0.1: -0.5,0 0.5,0 ; 0,-0.5 0,0.5 ; -12.05,-12.05 12.05,-12.05 12.05,12.05 -12.05,12.05 -12.05,-12.05
3D body: height 3.2, standoff 0, extent -8.475,-8.475 8.475,8.475

## HQA100D_N [mm] "100-Pin Ceramic Quad Flat Pack 0.635 mm Pitch, IPC Medium Density"
height 3.2
pads (100):
  oval 2.2x0.4 smd: 1(-10.25,7.62) 2(-10.25,6.985) 3(-10.25,6.35) 4(-10.25,5.715) 5(-10.25,5.08) 6(-10.25,4.445) 7(-10.25,3.81) 8(-10.25,3.175) 9(-10.25,2.54) 10(-10.25,1.905) 11(-10.25,1.27) 12(-10.25,0.635) 13(-10.25,0) 14(-10.25,-0.635) 15(-10.25,-1.27) 16(-10.25,-1.905) 17(-10.25,-2.54) 18(-10.25,-3.175) 19(-10.25,-3.81) 20(-10.25,-4.445) 21(-10.25,-5.08) 22(-10.25,-5.715) 23(-10.25,-6.35) 24(-10.25,-6.985) 25(-10.25,-7.62) 51(10.25,-7.62) 52(10.25,-6.985) 53(10.25,-6.35) 54(10.25,-5.715) 55(10.25,-5.08) 56(10.25,-4.445) 57(10.25,-3.81) 58(10.25,-3.175) 59(10.25,-2.54) 60(10.25,-1.905) 61(10.25,-1.27) 62(10.25,-0.635) 63(10.25,0) 64(10.25,0.635) 65(10.25,1.27) 66(10.25,1.905) 67(10.25,2.54) 68(10.25,3.175) 69(10.25,3.81) 70(10.25,4.445) 71(10.25,5.08) 72(10.25,5.715) 73(10.25,6.35) 74(10.25,6.985) 75(10.25,7.62)
  oval 0.4x2.2 smd: 26(-7.62,-10.25) 27(-6.985,-10.25) 28(-6.35,-10.25) 29(-5.715,-10.25) 30(-5.08,-10.25) 31(-4.445,-10.25) 32(-3.81,-10.25) 33(-3.175,-10.25) 34(-2.54,-10.25) 35(-1.905,-10.25) 36(-1.27,-10.25) 37(-0.635,-10.25) 38(0,-10.25) 39(0.635,-10.25) 40(1.27,-10.25) 41(1.905,-10.25) 42(2.54,-10.25) 43(3.175,-10.25) 44(3.81,-10.25) 45(4.445,-10.25) 46(5.08,-10.25) 47(5.715,-10.25) 48(6.35,-10.25) 49(6.985,-10.25) 50(7.62,-10.25) 76(7.62,10.25) 77(6.985,10.25) 78(6.35,10.25) 79(5.715,10.25) 80(5.08,10.25) 81(4.445,10.25) 82(3.81,10.25) 83(3.175,10.25) 84(2.54,10.25) 85(1.905,10.25) 86(1.27,10.25) 87(0.635,10.25) 88(0,10.25) 89(-0.635,10.25) 90(-1.27,10.25) 91(-1.905,10.25) 92(-2.54,10.25) 93(-3.175,10.25) 94(-3.81,10.25) 95(-4.445,10.25) 96(-5.08,10.25) 97(-5.715,10.25) 98(-6.35,10.25) 99(-6.985,10.25) 100(-7.62,10.25)
Top Overlay:
  circle w0.25: c-10.25,8.37 r0.125
  lines w0.2: -8.75,7.12 -7.25,7.12 -7.25,7.62 -8.75,7.62 ; -8.75,7.62 -7.62,8.75 7.62,8.75 8.75,7.62 8.75,-7.62 7.62,-8.75 -7.62,-8.75 -8.75,-7.62 -8.75,7.62
Mechanical 13:
  lines w0.1: -8.475,-8.475 8.475,-8.475 8.475,8.475 -8.475,8.475 -8.475,-8.475
Mechanical 15:
  lines w0.1: -0.5,0 0.5,0 ; 0,-0.5 0,0.5 ; -11.6,-11.6 11.6,-11.6 11.6,11.6 -11.6,11.6 -11.6,-11.6
3D body: height 3.2, standoff 0, extent -8.475,-8.475 8.475,8.475